# Altium footprint library panasonic_aqy28.PcbLib: 1 footprints
Each footprint in its own frame and in the unit in brackets; x right, y up, seen from the top. Pads: shape width x height; smd on the part's side, far side on the other; paste and mask are expansions set on the pad; w line width, h text height; cw(c..) or ccw(c..) is an arc to the next point about the centre after c.
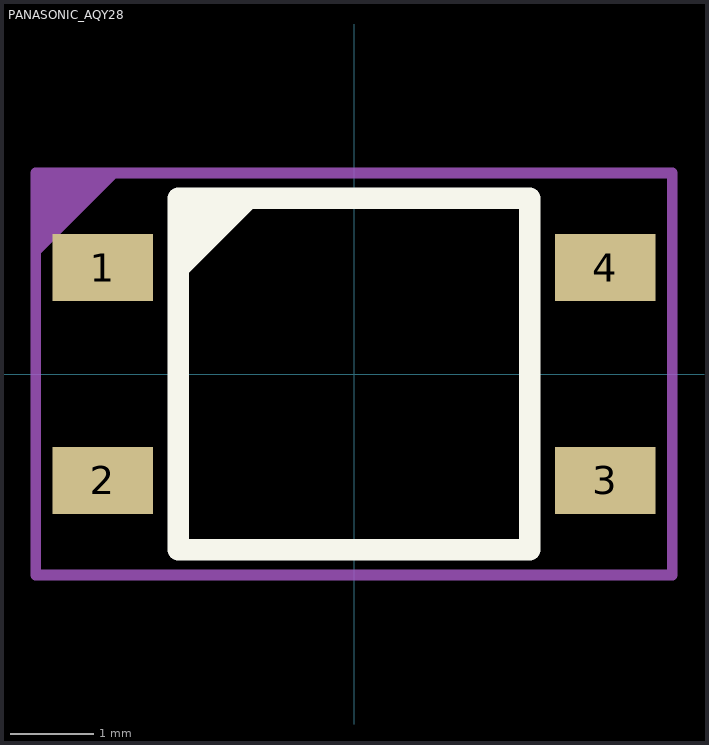
[diagram p0: the footprint, top view; thin cyan lines are the x and y axes]

## PANASONIC_AQY28 [mm]
height 2
pads (4):
  rect 1.2x0.8 smd: 1(-3,1.27) 2(-3,-1.27) 3(3,-1.27) 4(3,1.27)
Top Overlay:
  region: -2.1,2.1 -1.084,2.1 -2.1,1.084
  lines w0.254: -2.1,-2.1 2.1,-2.1 2.1,2.1 -2.1,2.1 -2.1,-2.1
Top Courtyard:
  region: -3.8,2.4 -2.784,2.4 -3.8,1.384
  lines w0.127: -3.8,-2.4 -3.8,2.4 3.8,2.4 3.8,-2.4 -3.8,-2.4
3D body "AQY280SX.stp": height 2.31, standoff 0.01, extent -3.4,-2.15 3.4,2.15